# EAGLE library part WASP7PIN (library wasp7pin)
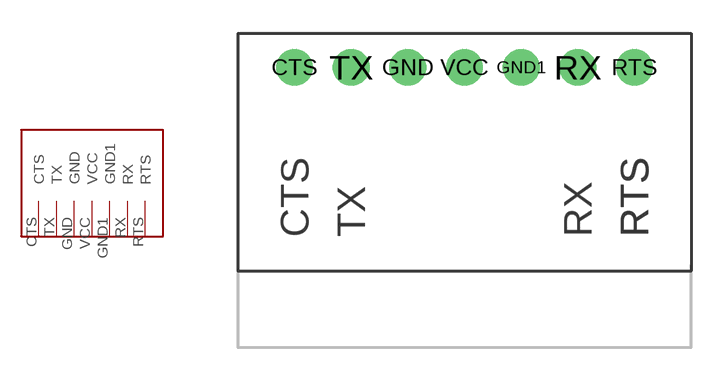
[diagram p0: symbol with the pads of WASP7PIN; footprint WASP7PIN]

Designator prefix -

## WASP7PIN  [WASP7PIN]
CTS  CTS
GND  GND
GND1  GND1
RTS  RTS
RX  RX
TX  TX
VCC  VCC

## Footprint WASP7PIN (pad centres in mm)
drill 1.1 round: CTS 0,0; GND 5.08,0; GND1 10.16,0; RTS 15.24,0; RX 12.7,0; TX 2.54,0; VCC 7.62,0